# Altium schematic symbol library 2020-11-28_22-37-04.SchLib: 2 symbols
Pins are listed as number, name and electrical type; pins without a type are passive.

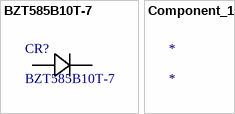
[diagram p0: symbols BZT585B10T-7 to Component_1]

## BZT585B10T-7
designator CR?
No Description Available; Vendor: Diodes Inc; Built_By: EMA_UL_Team; SourceLibrary: DiodesInc_2015-05-08; Type: DEV; Manufacturer_Part_Number: BZT585B10T-7; Copyright: Copyright (C) 2018 Accelerated Designs. All rights reserved; RefDes: RefDes
footprint SOD523_DIO
pins: 1, 2

## Component_1
designator *